# EAGLE library part LM4667 (library Audio-Power-amlifier V.2.0)
LM4667 Filterless High Efficiency 1.3W Switching Audio Amplifier
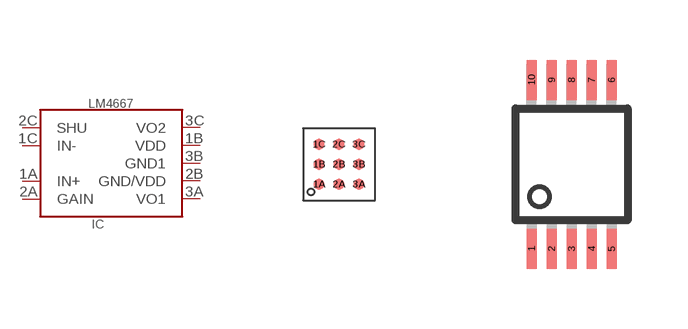
[diagram p200: symbol with the pads of BGA_MIKRO-SMD-9BUMP; footprints BGA_MIKRO-SMD-9BUMP, VSSOP10]

Designator prefix IC

## LM4667  [BGA_MIKRO-SMD-9BUMP]
1A  IN+  in
1B  VDD  pwr
1C  IN-  in
2A  GAIN
2B  GND/VDD  pwr
2C  SHU
3A  VO1  out
3B  GND1  pwr
3C  VO2  out

## LM4667LM4667MM  [VSSOP10]
1  SHU
2  IN-  in
4  IN+  in
5  GAIN
6  VO1  out
7  GND/VDD  pwr
8  GND1  pwr
9  VDD  pwr
10  VO2  out

## Footprint BGA_MIKRO-SMD-9BUMP (pad centres in mm)
BGA-Package Number TLA09 www.national.com
smd 0.277 x 0.277: 1A -0.5,-0.5; 1B -0.5,0; 1C -0.5,0.5; 2A 0,-0.5; 2B 0,0; 2C 0,0.5; 3A 0.5,-0.5; 3B 0.5,0; 3C 0.5,0.5

## Footprint VSSOP10 (pad centres in mm)
VSSOP10- DGS_(SPDSO-G10) www.ti.com/audio
smd 0.25 x 1: 1 -1,-2.113; 2 -0.5,-2.113; 3 0,-2.113; 4 0.5,-2.113; 5 1,-2.113; 6 1,2.113; 7 0.5,2.113; 8 0,2.113; 9 -0.5,2.113; 10 -1,2.113